# EAGLE library part MAX38642AELT+T (library PCB_Components)
Buck Switching Regulator IC Positive Adjustable 0.7V 1 Output 350mA 6-WDFN Source: Datasheet <https://datasheets.maximintegrated.com/en/ds/MAX38640-MAX38643.pdf>
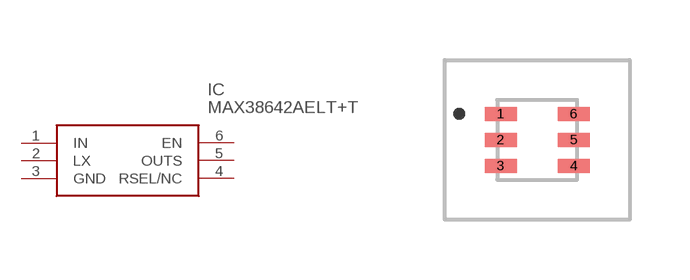
[diagram p4: symbol with the pads of MAX38642AELTT; footprint MAX38642AELTT]

Designator prefix IC

## MAX38642AELT+T (DESCRIPTION: Buck Switching Regulator IC Positive Adjustable 0.7V 1 Output 350mA 6-WDFN; HEIGHT: 0.8mm; MANUFACTURER_NAME: Maxim Integrated; MANUFACTURER_PART_NUMBER: MAX38642AELT+T; MOUSER_PART_NUMBER: 700-MAX38642AELT+T; MOUSER_PRICE-STOCK: https://www.mouser.co.uk/ProductDetail/Maxim-Integrated/MAX38642AELT%2bT/?qs=BJlw7L4Cy7%252BFrjyvbQLS3g%3D%3D)  [MAX38642AELTT]
1  IN
2  LX
3  GND
4  RSEL/NC
5  OUTS
6  EN

## Footprint MAX38642AELTT (pad centres in mm)
DFN
smd 0.8 x 0.35: 1 -0.915,0.65; 2 -0.915,0; 3 -0.915,-0.65; 4 0.915,-0.65; 5 0.915,0; 6 0.915,0.65